# Altium schematic symbol library schotky_diodes.SchLib: 2 symbols
Pins are listed as number, name and electrical type; pins without a type are passive.

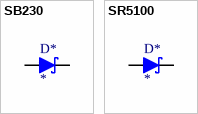
[diagram p0: symbols SB230 to SR5100]

## SB230
designator D*
footprint DO-15
pins: 1 A, 2 K

## SR5100
designator D*
footprint DO-201
pins: 1 A, 2 K